# EAGLE library part CSD88537 (library CMU-ArtFab)
Texas Instruments CSD88537ND Dual 60-V N-Channel NexFET™ Power MOSFET http://www.ti.com/lit/ds/symlink/csd88537nd.pdf
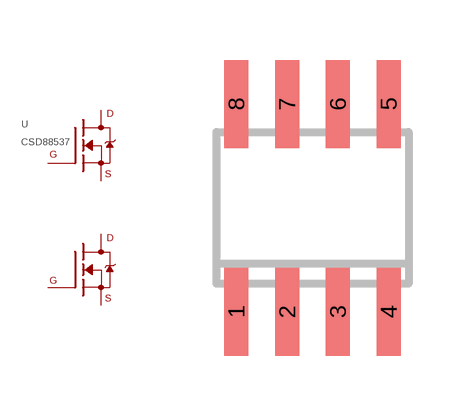
[diagram p15: symbol with the pads of SO08; footprint SO08]

Designator prefix -

## CSD88537  [SO08]
1  SOURCE1  pas
2  GATE1  pas
3  SOURCE2  pas
4  GATE2  pas
5  DRAIN2  pas
6  DRAIN2  pas
7  DRAIN1  pas
8  DRAIN1  pas

## Footprint SO08 (pad centres in mm)
Small Outline Package 8 NS Package M08A
smd 0.6 x 2.2: 1 -1.905,-2.6; 2 -0.635,-2.6; 3 0.635,-2.6; 4 1.905,-2.6; 5 1.905,2.6; 6 0.635,2.6; 7 -0.635,2.6; 8 -1.905,2.6